# Altium schematic symbol library Schlib_Acura.SchLib: 93 symbols (part 2 of 2)
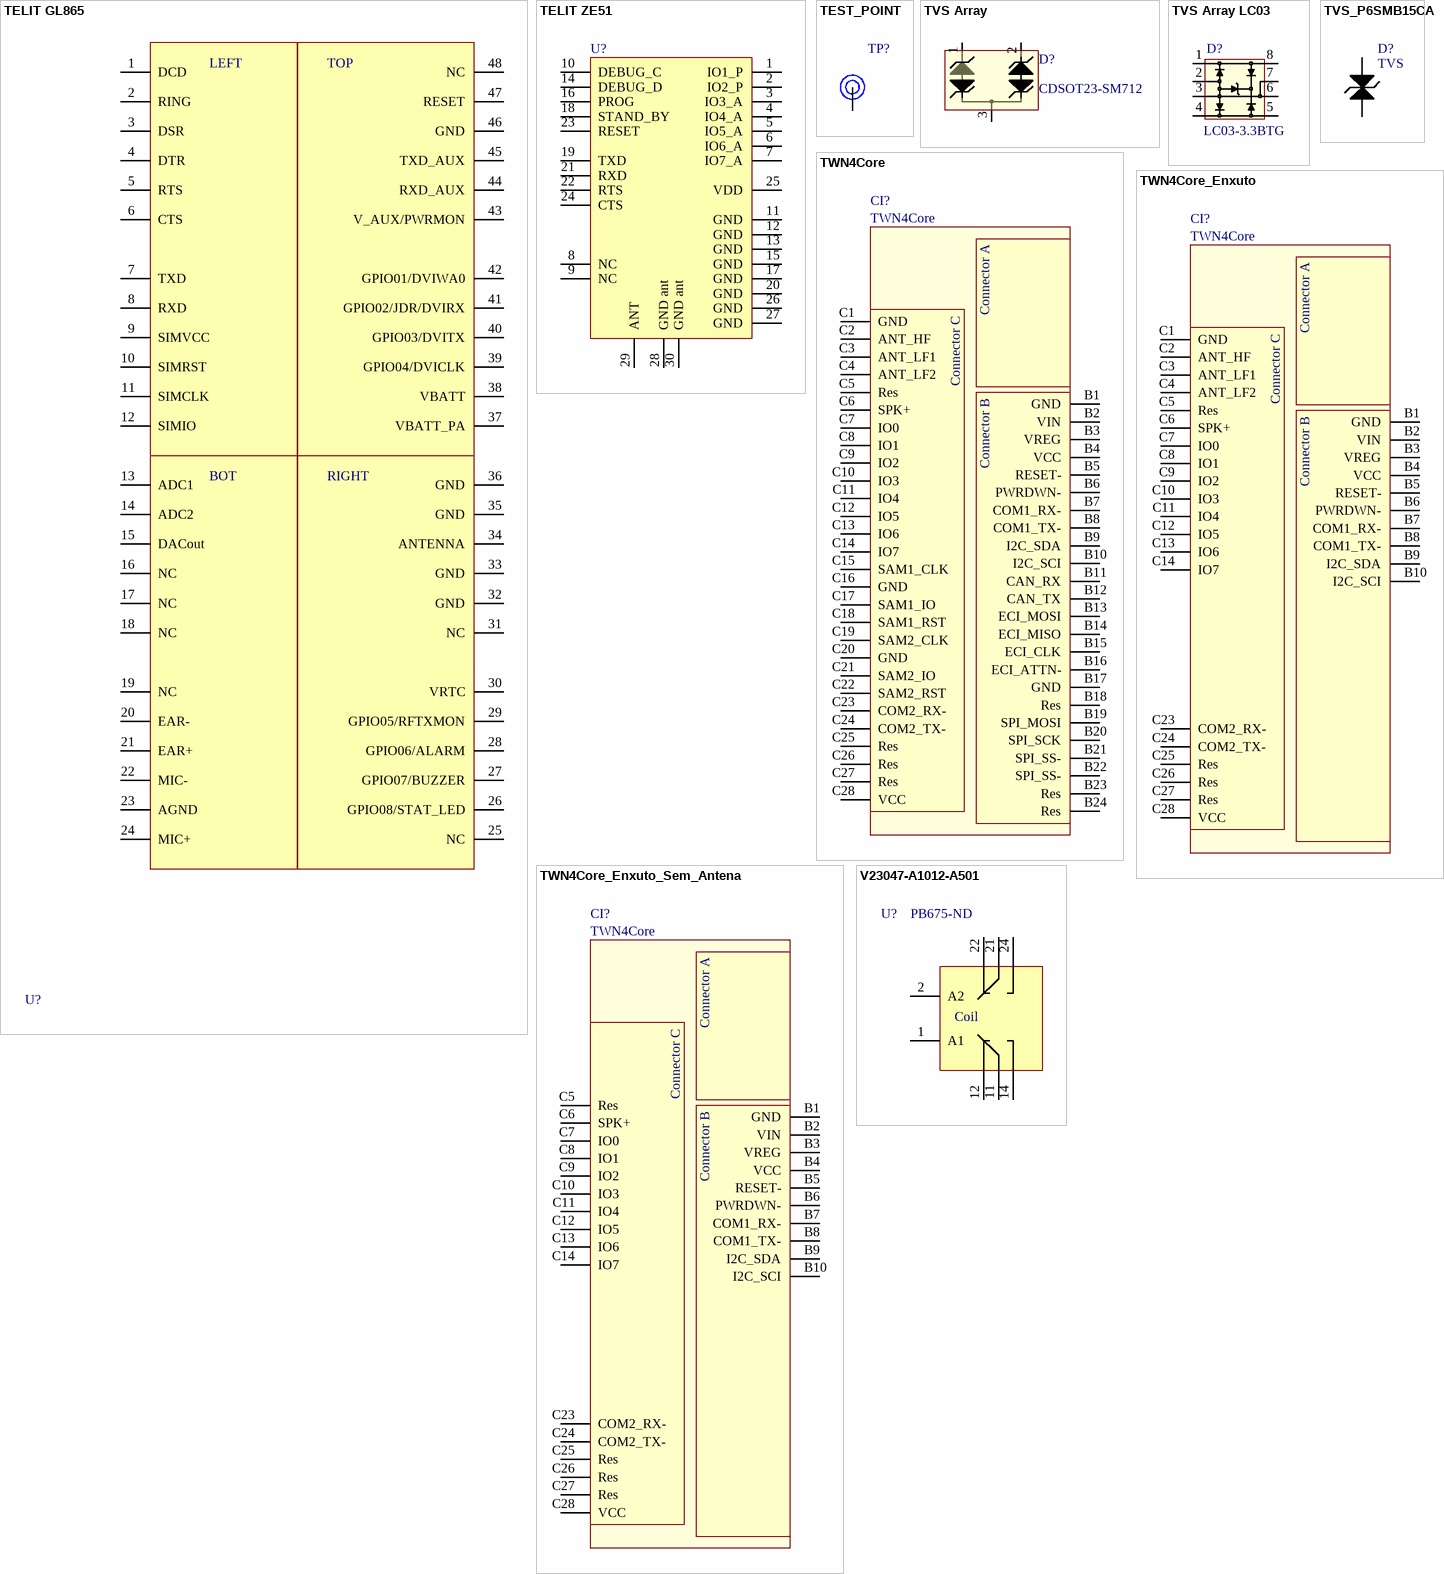
[diagram p4: symbols TELIT GL865 to V23047-A1012-A501]

## TWN4Core
designator CI?
footprint TWN4 ARM EM CIMA - TOP (TWN4 Core Module)
footprint TWN4 ARM EM CIMA - BOTTOM (TWN4 Core Module)
footprint TWN4 ARM ABAIXO - TOP (TWN4 Core Module)
footprint TWN4 ARM ABAIXO - BOTTOM (TWN4 Core Module)
pins: B1 GND "Ground", B2 VIN "Unregulated input to on-board voltage regulator", B3 VREG "3.3V output from on-board voltage regulator", B4 VCC "3.3V power supply input", B5 RESET- "Low active TTL input with internal pull-up resistor  for hard reset.", B6 PWRDWN- "Low active TTL input with internal pull-up resistor  for turning off the voltage regulator.", B7 COM1_RX- "Low active TTL input with internal pull-up resistor  of asynchronous RXD to COM1.", B8 COM1_TX- "Low active TTL output (push/pull) of asynchronous  TXD from COM1.", B9 I2C_SDA "Data pin of I2C interface. No internal pull up.", B10 I2C_SCI "Clock pin of I2C interface. No internal pull up.", B11 CAN_RX "TTL RX pin of CAN interface. A external interface  circuit is required.", B12 CAN_TX "TTL TX pin of CAN interface. A external interface  circuit is required.", B13 ECI_MOSI "Pin MOSI of ECI", B14 ECI_MISO "Pin MISO of ECI.", B15 ECI_CLK "Pin CLK of ECI.", B16 ECI_ATTN- "Pin ATTN- of ECI.", B17 GND "Ground", B18 Res "This pin is reserved for future purposes.", B19 SPI_MOSI "Pin MOSI of SPI interface", B20 SPI_SCK "Pin MISO of SPI interface", B21 SPI_SS- "Pin SS- of SPI interface", B22 SPI_SS- "Pin SS- of SPI interface", B23 Res "This pin is reserved for future purposes.", B24 Res "This pin is reserved for future purposes.", C1 GND "Ground", C2 ANT_HF "Together with pin C1, this pin builds a 50 ohm  output for connecting external 13.56MHz antennas", C3 ANT_LF1 "Output 1 for connecting external 125 kHz /  134.2 kHz antennas.", C4 ANT_LF2 "Output 2 for connecting external 125 kHz /  134.2 kHz antennas.", C5 Res "This pin is reserved for future purposes.", C6 SPK+ "Digitally modulated output for a speaker. Second  connection for the speaker is ground. The  impedance of the speaker should be greater than  24 ohm.", C7 IO0 "GPIO0, I/O pin for general purposes.", C8 IO1 "GPIO1, I/O pin for general purposes.", C9 IO2 "GPIO2, I/O pin for general purposes.", C10 IO3 "GPIO3, I/O pin for general purposes.", C11 IO4 "GPIO4, I/O pin for general purposes.", C12 IO5 "GPIO5, I/O pin for general purposes.", C13 IO6 "GPIO6, I/O pin for general purposes.", C14 IO7 "GPIO7, I/O pin for general purposes.", C15 SAM1_CLK "Clock output for SAM1", C16 GND "Ground", C17 SAM1_IO "I/O line for SAM1", C18 SAM1_RST "Reset output for SAM1", C19 SAM2_CLK "Clock output for SAM2", C20 GND "Ground", C21 SAM2_IO "I/O line for SAM2", C22 SAM2_RST "Reset output for SAM2", C23 COM2_RX- "Low active TTL input with internal pull-up resistor  of asynchronous RXD to COM2.", C24 COM2_TX- "Low active TTL output (push/pull) of asynchronous  TXD from COM2.", C25 Res "This pin is reserved for future purposes.", C26 Res "This pin is reserved for future purposes.", C27 Res "This pin is reserved for future purposes.", C28 VCC "3.3V power supply input or output for supplying  external components. Internally connected to B4."
text: Connector A; Connector C; Connector B

## TWN4Core_Enxuto
designator CI?, comment TWN4Core
footprint TWN4 ARM EM CIMA - TOP Enxuto (TWN4 Core Module)
footprint TWN4 ARM EM CIMA - BOTTOM Enxuto (TWN4 Core Module)
footprint TWN4 ARM ABAIXO - TOP ENXUTO (TWN4 Core Module)
footprint TWN4 ARM ABAIXO - BOTTOM ENXUTO (TWN4 Core Module)
pins: B1 GND "Ground", B2 VIN "Unregulated input to on-board voltage regulator", B3 VREG "3.3V output from on-board voltage regulator", B4 VCC "3.3V power supply input", B5 RESET- "Low active TTL input with internal pull-up resistor  for hard reset.", B6 PWRDWN- "Low active TTL input with internal pull-up resistor  for turning off the voltage regulator.", B7 COM1_RX- "Low active TTL input with internal pull-up resistor  of asynchronous RXD to COM1.", B8 COM1_TX- "Low active TTL output (push/pull) of asynchronous  TXD from COM1.", B9 I2C_SDA "Data pin of I2C interface. No internal pull up.", B10 I2C_SCI "Clock pin of I2C interface. No internal pull up.", C1 GND "Ground", C2 ANT_HF "Together with pin C1, this pin builds a 50 ohm  output for connecting external 13.56MHz antennas", C3 ANT_LF1 "Output 1 for connecting external 125 kHz /  134.2 kHz antennas.", C4 ANT_LF2 "Output 2 for connecting external 125 kHz /  134.2 kHz antennas.", C5 Res "This pin is reserved for future purposes.", C6 SPK+ "Digitally modulated output for a speaker. Second  connection for the speaker is ground. The  impedance of the speaker should be greater than  24 ohm.", C7 IO0 "GPIO0, I/O pin for general purposes.", C8 IO1 "GPIO1, I/O pin for general purposes.", C9 IO2 "GPIO2, I/O pin for general purposes.", C10 IO3 "GPIO3, I/O pin for general purposes.", C11 IO4 "GPIO4, I/O pin for general purposes.", C12 IO5 "GPIO5, I/O pin for general purposes.", C13 IO6 "GPIO6, I/O pin for general purposes.", C14 IO7 "GPIO7, I/O pin for general purposes.", C23 COM2_RX- "Low active TTL input with internal pull-up resistor  of asynchronous RXD to COM2.", C24 COM2_TX- "Low active TTL output (push/pull) of asynchronous  TXD from COM2.", C25 Res "This pin is reserved for future purposes.", C26 Res "This pin is reserved for future purposes.", C27 Res "This pin is reserved for future purposes.", C28 VCC "3.3V power supply input or output for supplying  external components. Internally connected to B4."
text: Connector A; Connector C; Connector B

## TWN4Core_Enxuto_Sem_Antena
designator CI?, comment TWN4Core
footprint TWN4 ARM ABAIXO - TOP ENXUTO - SEM ANT (TWN4 Core Module)
pins: B1 GND "Ground", B2 VIN "Unregulated input to on-board voltage regulator", B3 VREG "3.3V output from on-board voltage regulator", B4 VCC "3.3V power supply input", B5 RESET- "Low active TTL input with internal pull-up resistor  for hard reset.", B6 PWRDWN- "Low active TTL input with internal pull-up resistor  for turning off the voltage regulator.", B7 COM1_RX- "Low active TTL input with internal pull-up resistor  of asynchronous RXD to COM1.", B8 COM1_TX- "Low active TTL output (push/pull) of asynchronous  TXD from COM1.", B9 I2C_SDA "Data pin of I2C interface. No internal pull up.", B10 I2C_SCI "Clock pin of I2C interface. No internal pull up.", C5 Res "This pin is reserved for future purposes.", C6 SPK+ "Digitally modulated output for a speaker. Second  connection for the speaker is ground. The  impedance of the speaker should be greater than  24 ohm.", C7 IO0 "GPIO0, I/O pin for general purposes.", C8 IO1 "GPIO1, I/O pin for general purposes.", C9 IO2 "GPIO2, I/O pin for general purposes.", C10 IO3 "GPIO3, I/O pin for general purposes.", C11 IO4 "GPIO4, I/O pin for general purposes.", C12 IO5 "GPIO5, I/O pin for general purposes.", C13 IO6 "GPIO6, I/O pin for general purposes.", C14 IO7 "GPIO7, I/O pin for general purposes.", C23 COM2_RX- "Low active TTL input with internal pull-up resistor  of asynchronous RXD to COM2.", C24 COM2_TX- "Low active TTL output (push/pull) of asynchronous  TXD from COM2.", C25 Res "This pin is reserved for future purposes.", C26 Res "This pin is reserved for future purposes.", C27 Res "This pin is reserved for future purposes.", C28 VCC "3.3V power supply input or output for supplying  external components. Internally connected to B4."
text: Connector A; Connector C; Connector B

## V23047-A1012-A501
designator U?, comment Supplier Part Number 1: PB675-ND  (hidden comment: RELAY SAFETY DPDT 6A 12V)
Manufacturer: TE Connectivity Potter & Brumfield Relays; Manufacturer Part Number: V23047-A1012-A501; Coil Type: Non Latching; Coil Current: 58.3mA; Coil Voltage: 12VDC; Contact Form: DPDT (2 Form C); Switching Voltage: 400VAC - Max; Turn On Voltage (Max): 9 VDC; Turn Off Voltage (Min): 1.2 VDC; Coil Power: 699 mW; Coil Resistance: 206 Ohms; Supplier 1: Digi-Key; RoHS: RoHS Compliant; Category: Relays; Stock 1: 33; Pricing 1: 1=13.54, 10=12.65, 25=11.02, 50=10.02, 100=7.43, 200=6.41 (USD); Packaging: Tube; Relay Type: Safety; Contact Rating (Current): 6A; Operate Time: -; Release Time: -; Features: Sealed - Fully; Mounting Type: Through Hole; Termination Style: PC Pin; Contact Material: Silver Nickel (AgNi); Operating Temperature: -25°C ~ 70°C; ComponentLink1URL: http://www.te.com/commerce/DocumentDelivery/DDEController?Action=srchrtrv&DocNm=SR2M&DocType=DS&DocLang=English; ComponentLink1Description: http://www.te.com/commerce/DocumentDelivery/DDEController?Action=srchrtrv&DocNm=SR2M&DocType=DS&DocLang=English
footprint RELAY_2FORMC (Force Guided Relay SR2M)
pins: 1 A1, 2 A2, 11 CO2, 12 NC2, 14 NO2, 21 CO1, 22 NC1, 24 NO1
text: Coil